# Altium footprint library syhaunguyen.PcbLib: 329 footprints (part 14 of 21)
Each footprint in its own frame and in the unit in brackets; x right, y up, seen from the top. Pads: shape width x height; smd on the part's side, far side on the other; paste and mask are expansions set on the pad; w line width, h text height; cw(c..) or ccw(c..) is an arc to the next point about the centre after c.
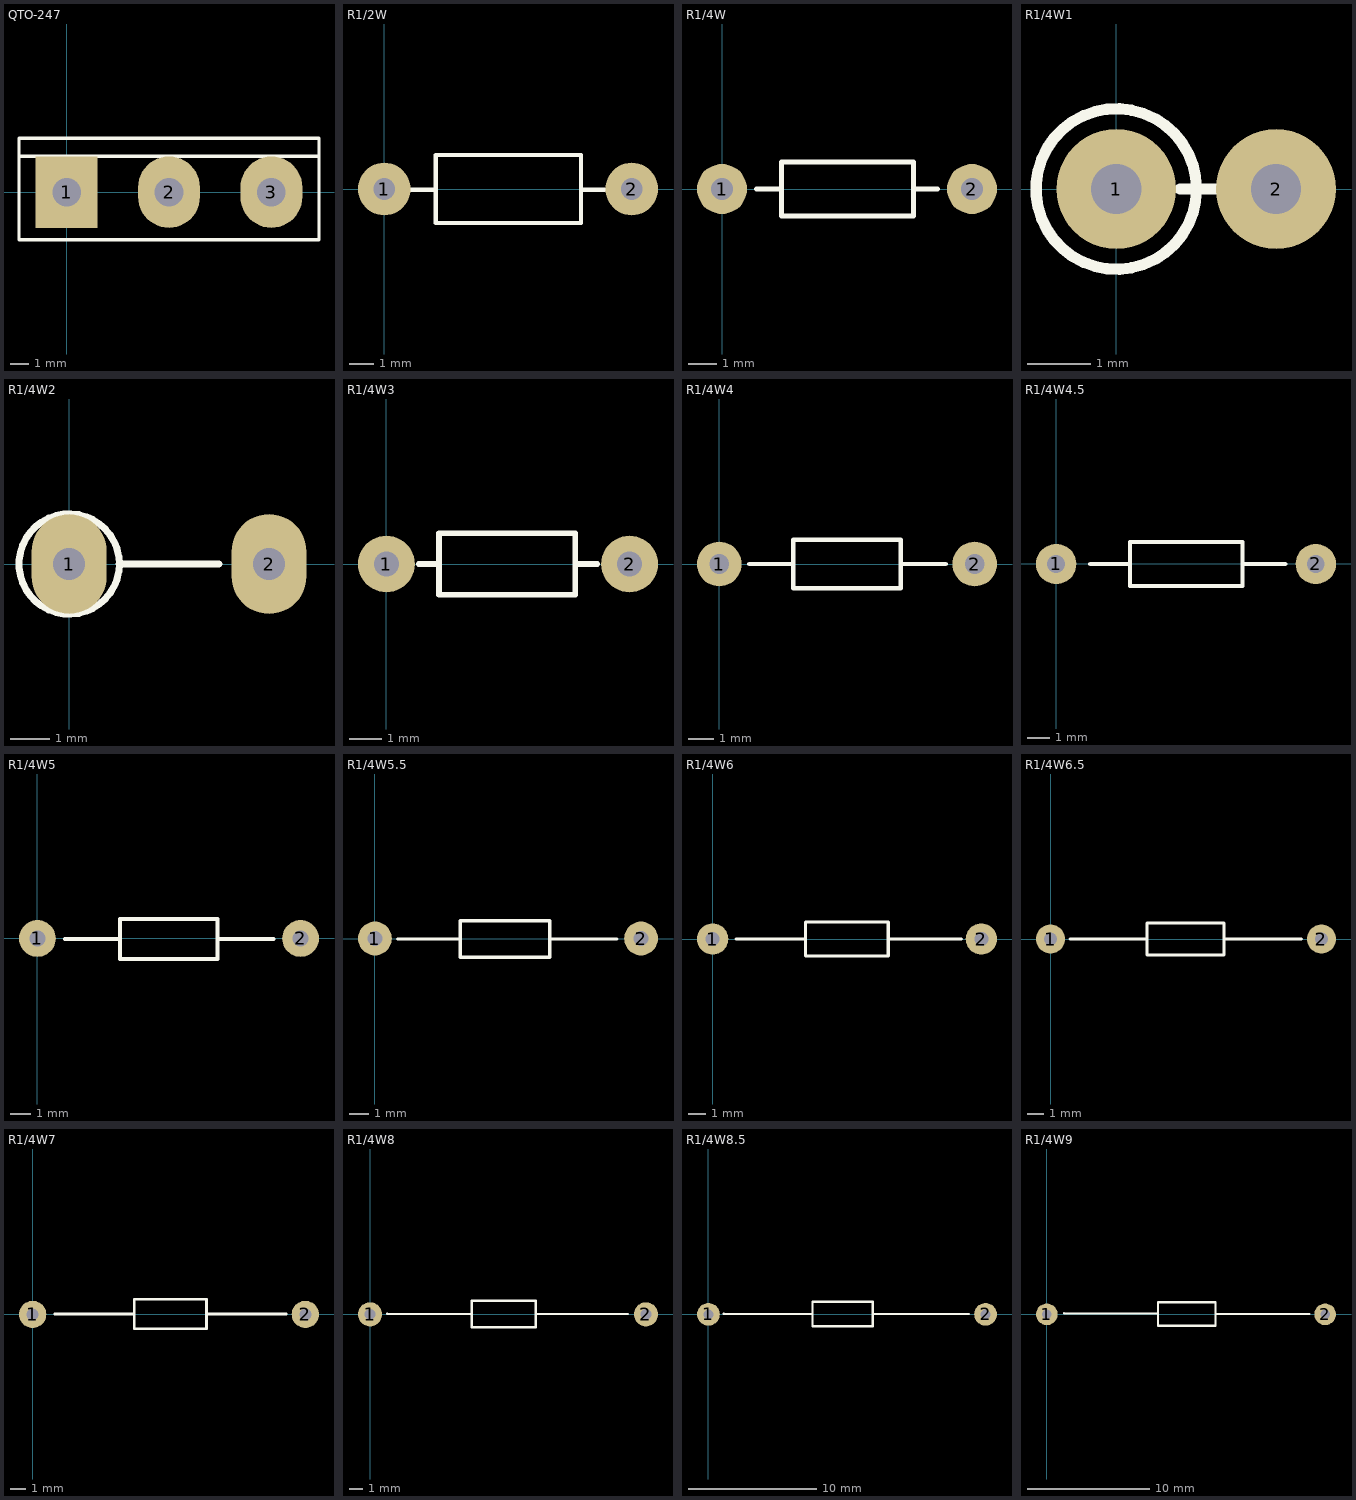
[diagram p13: the footprints below, top view; thin cyan lines are the x and y axes]

## QTO-247 [mil] "TO-247"
height 200
pads (3):
  rect 130x150 hole 60: 1(0,0)
  oval 130x150 hole 60: 2(215,0) 3(430,0)
Top Overlay:
  lines w7: -100,75 529,75 ; -100,-100 530,-100 530,113 -100,113 -100,-100
3D body: height 940.6, standoff -479.4, extent -89,-78 511,102

## R1/2W [mil] "R 1/2W, 2 pin, 300mil"
height 100
pads (2):
  round 85 hole 35: 1(0,0) 2(400,0)
Top Overlay:
  lines w7: 42,-1 83,-1 ; 318,-1 356,-1 ; 83,-55 318,-55 318,55 83,55 83,-55
3D body: height 91.42, standoff -70, extent -11.6,-45.49 413.6,49

## R1/4W [mil] "R 1/4W, 2 Pin, 350mil"
height 100
pads (2):
  round 70 hole 31: 1(0,0) 2(350,0)
Top Overlay:
  lines w7: 48,0 83,0 ; 268,0 302,0 ; 83,-38 83,38 268,38 268,-38 83,-38
3D body: height 111.42, standoff -50, extent -39.6,-47 385.6,47.49

## R1/4W1 [mm] "R 1/4W, 2 Pin, 150mil"
height 2.54
pads (2):
  round 1.905 hole 0.8: 1(0,0) 2(2.54,0)
Top Overlay:
  circle w0.178: c0,0 r1.276
  lines w0.178: 1.016,0 1.651,0
3D body: height 7.3, standoff -1.45, extent -0.889,-0.92 2.823,0.92

## R1/4W2 [mil] "R 1/4W, 2 Pin, 200mil"
height 100
pads (2):
  oval 75x100 hole 32: 1(0,0) 2(200,0)
Top Overlay:
  circle w7: c0,0 r50.25
  lines w7: 50,0 150,0

## R1/4W3 [mil] "R 1/4W, 2 Pin, 350mil"
height 100
pads (2):
  round 70 hole 31: 1(0,0) 2(300,0)
Top Overlay:
  lines w7: 40,0 65,0 ; 233,0 260,0 ; 65,-38 65,38 233,38 233,-38 65,-38
3D body: height 79.37, standoff -78.11, extent -9.45,-40 309.45,38.74

## R1/4W4 [mil] "R 1/4W, 2 Pin, 400mil"
height 100
pads (2):
  round 70 hole 31: 1(0,0) 2(400,0)
Top Overlay:
  lines w7: 47,0 116,0 ; 284,0 355,0 ; 116,-38 116,38 284,38 284,-38 116,-38
3D body: height 115.5, standoff -100, extent -12,-45 412,46

## R1/4W4.5 [mil] "R 1/4W, 2 Pin, 450mil"
height 100
pads (2):
  round 70 hole 31: 1(0,0) 2(450,0)
Top Overlay:
  lines w7: 59,0 128,0 ; 326,0 397,0 ; 128,-38 323,-38 323,38 128,38 128,-38

## R1/4W5 [mil] "R 1/4W, 2 Pin, 500mil"
height 100
pads (2):
  round 70 hole 31: 1(0,0) 2(500,0)
Top Overlay:
  lines w7: 52,-1 157,-1 ; 342,-1 449,-1 ; 157,-39 157,37 342,37 342,-39 157,-39

## R1/4W5.5 [mil] "R 1/4W, 2 Pin, 550mil"
height 100
pads (2):
  round 70 hole 31: 1(0,0) 2(550,0)
Top Overlay:
  lines w7: 47,-1 176,-1 ; 361,-1 500,-1 ; 176,-39 176,37 361,37 361,-39 176,-39

## R1/4W6 [mil] "R 1/4W, 2 Pin, 600mil"
height 100
pads (2):
  round 70 hole 31: 1(0,0) 2(600,0)
Top Overlay:
  lines w7: 52,0 207,0 ; 392,0 556,0 ; 207,-38 392,-38 392,38 207,38 207,-38

## R1/4W6.5 [mil] "R 1/4W, 2 Pin, 650mil"
height 100
pads (2):
  round 70 hole 31: 1(0,0) 2(650,0)
Top Overlay:
  lines w7: 47,0 231,0 ; 416,0 602,0 ; 231,-38 231,38 416,38 416,-38 231,-38

## R1/4W7 [mil] "R 1/4W, 2 Pin, 600mil"
height 100
pads (2):
  round 70 hole 31: 1(0,0) 2(700,0)
Top Overlay:
  lines w7: 57,1 261,1 ; 446,1 651,1 ; 261,-37 446,-37 446,39 261,39 261,-37
3D body: height 142, standoff -125, extent 4.25,-65 705.75,67

## R1/4W8 [mil] "R 1/4W, 2 Pin, 600mil"
height 100
pads (2):
  round 70 hole 31: 1(0,0) 2(800,0)
Top Overlay:
  lines w7: 50,2 295,1 ; 480,1 748,1 ; 295,-37 480,-37 480,39 295,39 295,-37

## R1/4W8.5 [mil] "R 1/4W, 2 Pin, 600mil"
height 100
pads (2):
  round 70 hole 31: 1(0,0) 2(850,0)
Top Overlay:
  lines w7: 47,2.11 319,1 ; 504,1 799,1 ; 319,-37 319,39 504,39 504,-37 319,-37

## R1/4W9 [mil] "R 1/4W, 2 Pin, 600mil"
height 100
pads (2):
  round 70 hole 31: 1(0,0) 2(900,0)
Top Overlay:
  lines w7: 56.01,3.24 360,2 ; 545,1 849,1 ; 360,-37 545,-37 545,39 360,39 360,-37